# EAGLE library part BF1102 (library analog)
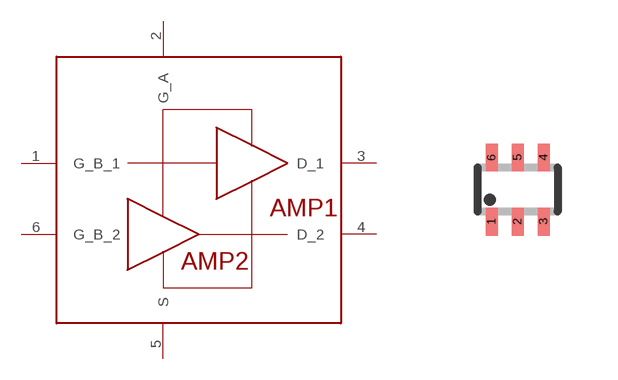
[diagram p0: symbol with the pads of SOT363_INFINEON; footprint SOT363_INFINEON]

Designator prefix -

## BF1102  [SOT363_INFINEON]
1  G_B_1
2  G_A
3  D_1
4  D_2
5  S
6  G_B_2

## BF1102R  [SOT363_INFINEON]
1  G_B_1
2  S
3  D_1
4  D_2
5  G_A
6  G_B_2

## Footprint SOT363_INFINEON (pad centres in mm)
Small Outline Transistor; 6 leads Reflow soldering INFINEON, www.infineon.com/cmc_upload/0/000/010/257/eh_db_5b.pdf
smd 0.3 x 0.7: 1 -0.65,-0.8; 2 0,-0.8; 3 0.65,-0.8; 4 0.65,0.8; 5 0,0.8; 6 -0.65,0.8